# Altium schematic symbol library 电源.SchLib: 25 symbols
Pins are listed as number, name and electrical type; pins without a type are passive.

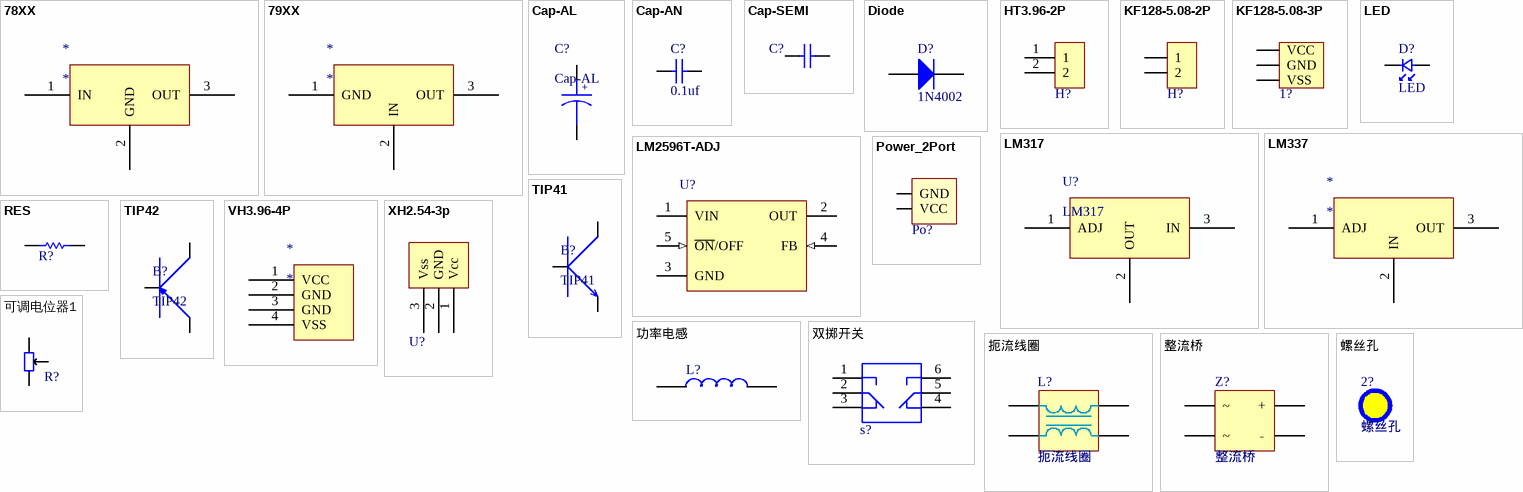
[diagram p0: symbols 78XX to 螺丝孔]

## 78XX
designator *
footprint TO-220
pins: 1 IN, 2 GND, 3 OUT

## 79XX
designator *
footprint TO-220
pins: 1 GND, 2 IN, 3 OUT

## Cap-AL
designator C?
footprint CD-2.2mm
footprint CD-3mm
footprint CD-3.8mm
footprint CD-4mm
footprint CD-5mm
footprint CD-6.5mm
footprint CD-7.6mm
pins: 1, 2
text: +

## Cap-AN
designator C?  值: 0.1uf
footprint 安规电容
pins: 1, 2

## Cap-SEMI
designator C?  (value not drawn)
footprint 0805
footprint 陶瓷电容
footprint 独石电容
pins: 1, 2

## Diode
designator D?, comment 1N4002
Default Diode; Published: 8-Jun-2000; LatestRevisionDate: 17-Jul-2002; LatestRevisionNote: Re-released for DXP Platform.; PackageVersion: Sep-1996; PackageReference: SMC; Publisher: Altium Limited; PackageDescription: DO-214-AB/SMC; 2 C-Bend Leads; Body 7.9 x 5.9 mm, inc. leads (LxW); Code_JEDEC: DO-214-AB
footprint SMC (DO-214-AB/SMC; 2 C-Bend Leads; Body 7.9 x 5.9 mm, inc. leads (LxW))
simulation model DIODE (Diode)
signal-integrity model Diode
pins: 1 A, 2 K

## HT3.96-2P
designator H?  (value not drawn)
footprint HT39.6-2P-S
pins: 1, 2

## KF128-5.08-2P
designator H?  (value not drawn)
footprint KF128-5.08-2P
pins: 1, 2

## KF128-5.08-3P
designator 1?  (value not drawn)
footprint KF128-5.08-3P
pins: 1 VCC, 2 GND, 3 VSS

## LED
designator D?
footprint 0805_s
pins: 1, 2

## LM317
designator U?
footprint TO-220
pins: 1 ADJ, 2 OUT, 3 IN

## LM337
designator *
footprint TO-220
pins: 1 ADJ, 2 IN, 3 OUT

## LM2596T-ADJ
designator U?
SIMPLE SWITCHER?Power Converter 150 KHz 3A Step-Down Voltage Regulator, 5-pin TO-220; PartNumber: LM2596T-ADJ; Manufacturer: National Semiconductor; PackageTopMarking: NSUZXYTTE#*LM2596T*-ADJ P+; PowerWise: N; High-Reliability: Y; DatasheetVersion: May-2002; PackageVersion: revA, Oct-1989; PackageReference: T05D; PackageDescription: TO-220, Molded, Stagger Bend, 5 Lead; RoHS: N; PinCount: 5; CompType: Switcher; ComponentLink1Description: Manufacturer URL; ComponentLink1URL: http://www.national.com/; ComponentLink2Description: LM2596 Datasheet; ComponentLink2URL: http://www.national.com/ds/LM/LM2596.pdf; ComponentLink3Description: LM2596 Web Page; ComponentLink3URL: http://www.national.com/pf/LM/LM2596.html; ComponentLink4Description: T05D Package Page; ComponentLink4URL: http://www.national.com/packaging/folders/t05d.html
footprint T05D (TO, Thru-Hole, Vertical, Heatsink Mounted; 5 Bent Staggered Leads; Body 10.3x8.6x4.6mm, Pitch 1.7 mm)
footprint T05A (TO, Thru-Hole, Vertical, Heatsink Mounted; 5 In-Line Leads; Pitch 1.70 mm)
pins: 1 VIN (power), 2 OUT (power), 3 GND (power), 4 FB (in), 5 ~{ON}/OFF (in)

## Power_2Port
designator Po?  (value not drawn)
footprint Power_S_2Port
pins: 1 VCC, 2 GND

## RES
designator R?  (value not drawn)
值: 1k
footprint 0805
pins: 1, 2

## TIP41
designator B?
footprint TO-220
pins: 1, 2, 3

## TIP42
designator B?
footprint TO-220
pins: 1, 2, 3

## VH3.96-4P
designator *
footprint VH3.96-4P
pins: 1 VCC, 2 GND, 3 GND, 4 VSS

## XH2.54-3p
designator U?  (value not drawn)
footprint XH2.54-3p
pins: 1 Vcc, 2 GND, 3 Vss

## 功率电感
designator L?, comment SMD  (value not drawn)
footprint 功率电感-12x12 - duplicate
pins: 1, 2

## 双掷开关
designator s?  (value not drawn)
footprint SWITCH
pins: 1, 2, 3, 4, 5, 6

## 可调电位器1
designator R?  (value not drawn)
footprint 电位器
pins: 1, 2, 3

## 扼流线圈
designator L?
footprint 扼流线圈
pins: 1, 2, 3, 4

## 整流桥
designator Z?
footprint 整流桥
pins: 1 +, 2 ~, 3 ~, 4 ﹣

## 螺丝孔
designator 2?
footprint 固定过孔